# Altium footprint library PcbLib2.PcbLib: 11 footprints
Each footprint in its own frame and in the unit in brackets; x right, y up, seen from the top. Pads: shape width x height; smd on the part's side, far side on the other; paste and mask are expansions set on the pad; w line width, h text height; cw(c..) or ccw(c..) is an arc to the next point about the centre after c.
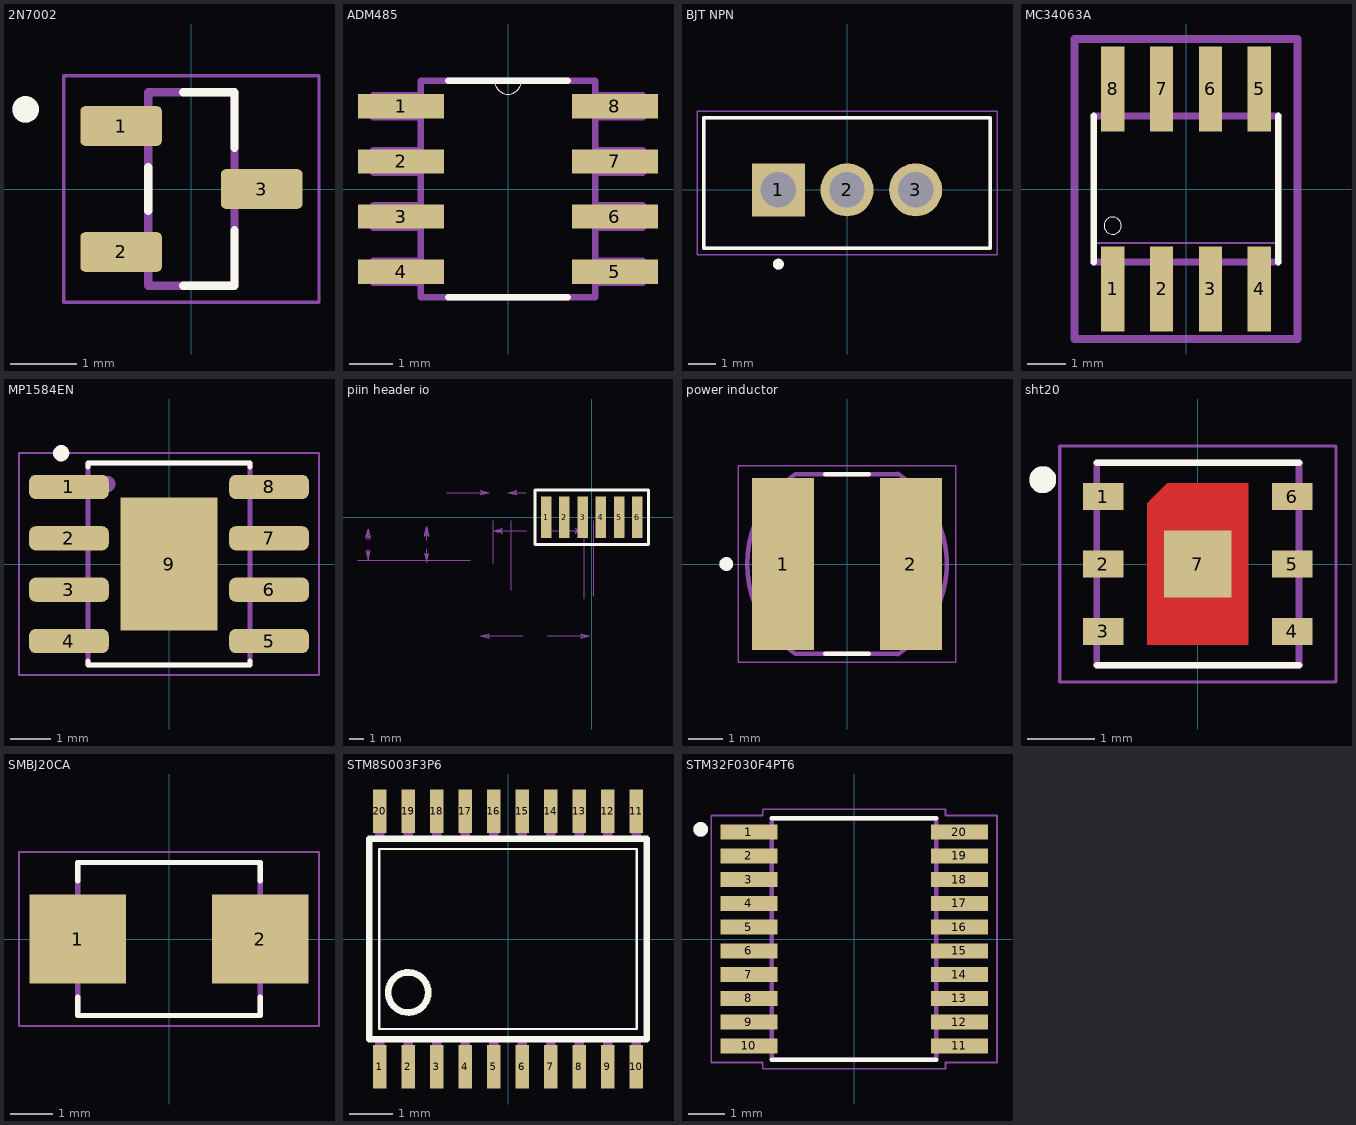
[diagram p0: the footprints below, top view; thin cyan lines are the x and y axes]

## 2N7002 [mm]
pads (3):
  rrect25% 1.23x0.6 smd: 1(-1.06,0.95) 2(-1.06,-0.95) 3(1.06,0)
Top Overlay:
  circle w0.2: c-2.5,1.2 r0.1
  lines w0.127: -0.65,-0.33 -0.65,0.33 ; -0.125,-1.46 0.65,-1.46 0.65,-0.62 ; -0.125,1.46 0.65,1.46 0.65,0.62
Mechanical 13:
  circle w0.2: c-2.5,1.2 r0.1
  lines w0.127: -0.65,-1.46 -0.65,1.46 0.65,1.46 0.65,-1.46 -0.65,-1.46
Mechanical 15:
  lines w0.05: -1.925,-1.71 1.925,-1.71 1.925,1.71 -1.925,1.71 -1.925,-1.71
3D body "2N7002--3DModel-STEP-1.STEP": height 1.02, standoff -0.09, extent -1.2,-1.376 1.2,1.524

## ADM485 [mil]
pads (8):
  rect 78x22 smd: 1(-97,75) 2(-97,25) 3(-97,-25) 4(-97,-75) 5(97,-75) 6(97,-25) 7(97,25) 8(97,75)
Top Overlay:
  lines w0: -12,98 ccw(c0,98) 12,98
  lines w6: -54,-98 54,-98 ; -54,98 -12,98 12,98 54,98
Mechanical 13:
  lines w0: -12,98 ccw(c0,98) 12,98
  lines w6: -122,-85 -122,-65 -79,-65 -79,-85 -122,-85 ; -122,-35 -122,-15 -79,-15 -79,-35 -122,-35 ; -122,15 -122,35 -79,35 -79,15 -122,15 ; -122,65 -122,85 -79,85 -79,65 -122,65 ; -79,-98 79,-98 79,98 12,98 -12,98 -79,98 -79,-98 ; 79,-85 79,-65 122,-65 122,-85 79,-85 ; 79,-35 79,-15 122,-15 122,-35 79,-35 ; 79,15 79,35 122,35 122,15 79,15 ; 79,65 79,85 122,85 122,65 79,65
3D body "ADM485ARZ-REEL.STEP": height 67.93, standoff -0.97, extent -113.11,-97.91 123.11,95

## BJT NPN [mm]
pads (3):
  rect 1.965x1.965 hole 1.31: 1(-2.54,0)
  round 1.965 hole 1.31: 2(0,0) 3(2.54,0)
Top Overlay:
  circle w0.2: c-2.54,-2.75 r0.1
  lines w0.127: -5.3,-2.16 5.3,-2.16 5.3,2.66 -5.3,2.66 -5.3,-2.16
Mechanical 13:
  circle w0.2: c-2.54,-2.75 r0.1
  lines w0.127: -5.3,-2.16 5.3,-2.16 5.3,2.66 -5.3,2.66 -5.3,-2.16
Mechanical 15:
  lines w0.05: -5.55,-2.41 5.55,-2.41 5.55,2.91 -5.55,2.91 -5.55,-2.41
3D body "step_temp.STEP": height 19.68, standoff -10.34, extent -4.985,-1.759 4.985,2.686

## MC34063A [mm]
pads (8):
  rect 0.6x2.2 smd: 1(-1.905,-2.6) 2(-0.635,-2.6) 3(0.635,-2.6) 4(1.905,-2.6) 5(1.905,2.6) 6(0.635,2.6) 7(-0.635,2.6) 8(-1.905,2.6)
Top Overlay:
  circle w0: c-1.905,-0.953 r0.225
  lines w0.178: -2.4,-1.9 -2.4,1.9 ; 2.4,-1.9 2.4,1.9
Mechanical 13:
  region: -1.66,2.003 -2.154,2.003 -2.154,3.1 -1.66,3.1
  region: -0.39,2.001 -0.88,2.001 -0.88,3.1 -0.39,3.1
  region: 0.88,2.002 0.39,2.002 0.39,3.1 0.88,3.1
  region: 2.15,2.001 1.661,2.001 1.661,3.1 2.15,3.1
  region: 2.15,-3.101 1.66,-3.101 1.66,-2 2.15,-2
  region: 0.88,-3.1 0.39,-3.1 0.39,-2 0.88,-2
  region: -0.39,-3.102 -0.881,-3.102 -0.881,-2 -0.39,-2
  region: -1.66,-3.103 -2.152,-3.103 -2.152,-2 -1.66,-2
  lines w0.051: -2.4,-1.4 2.4,-1.4
  lines w0.178: -2.4,-1.9 2.4,-1.9 ; -2.4,1.9 2.4,1.9
Mechanical 15:
  lines w0.2: -2.9,-3.9 -2.9,3.9 2.9,3.9 2.9,-3.9 -2.9,-3.9
3D body "MC34063A.STEP": height 1.68, standoff -0.07, extent -2.45,-3 2.45,3

## MP1584EN [mm]
pads (9):
  rrect54% 1.97x0.6 smd: 1(-2.475,1.905) 2(-2.475,0.635) 3(-2.475,-0.635) 4(-2.475,-1.905) 5(2.475,-1.905) 6(2.475,-0.635) 7(2.475,0.635) 8(2.475,1.905)
  rect 2.41x3.3 smd paste-3: 9(0,0)
Top Overlay:
  circle w0.2: c-2.667,2.74 r0.1
  lines w0.127: -2,-2.4 -2,-2.5 2,-2.5 2,-2.4 ; -2,2.4 -2,2.5 2,2.5 2,2.4
Top Paste:
  region: 0.935,0.135 0.135,0.135 0.135,1.375 0.935,1.375
  region: 0.935,-1.377 0.135,-1.377 0.135,-0.135 0.935,-0.135
  region: -0.135,-1.378 -0.937,-1.378 -0.937,-0.135 -0.135,-0.135
  region: -0.135,0.135 -0.937,0.135 -0.937,1.375 -0.135,1.375
Mechanical 13:
  circle w0.2: c-1.524,1.978 r0.1
  lines w0.127: -2,-2.5 2,-2.5 2,2.5 -2,2.5 -2,-2.5
Mechanical 15:
  lines w0.05: -3.71,-2.75 3.71,-2.75 3.71,2.75 -3.71,2.75 -3.71,-2.75
3D body "MP1584EN.STEP": height 1.67, standoff -0.03, extent -3.023,-2.489 2.972,2.413

## piin header io [mm]
pads (6):
  rect 0.74x2.87 smd: 1(-3.175,0) 2(-1.905,0) 3(-0.635,0) 4(0.635,0) 5(1.905,0) 6(3.175,0)
Top Overlay:
  lines w0.2: -3.937,-1.905 -3.937,1.905 3.937,1.905 3.937,-1.905 -3.937,-1.905
Top Solder:
  rectangle: -3.596,-1.435 -2.754,1.537
  rectangle: -2.326,-1.435 -1.484,1.537
  rectangle: 0.214,-1.435 1.056,1.537
  rectangle: 1.484,-1.435 2.326,1.537
  rectangle: 2.754,-1.435 3.596,1.537
  rectangle: -1.056,-1.435 -0.214,1.537
Mechanical 40:
  lines w0: -16.259,-2.985 -8.448,-2.985 ; -15.557,-2.223 -15.557,-2.985 ; -15.557,-1.587 -15.557,-0.825 ; -11.493,-2.223 -11.493,-3.137 ; -11.493,-1.587 -11.493,-0.673 ; -10.071,1.715 -7.112,1.715 ; -6.858,-3.201 -6.858,-0.241 -6.858,-2.63 ; -5.588,-5.094 -5.588,-0.241 ; -4.788,-8.255 -7.747,-8.255 ; -4.572,1.715 -5.842,1.715 ; -4.534,-0.942 -6.858,-0.942 ; -3.086,-8.255 -0.127,-8.255 ; -2.832,-0.942 -0.508,-0.942 ; -0.508,-5.665 -0.508,-0.241 ; 0.127,-5.511 0.127,-0.241 ; -15.716,-2.349 -15.557,-2.985 ; -15.716,-2.349 -15.557,-2.477 ; -15.716,-2.349 -15.637,-2.413 -15.557,-2.985 ; -15.557,-2.985 -15.399,-2.349 -15.557,-2.477 ; -15.557,-2.985 -15.478,-2.413 -15.557,-2.477 ; -15.557,-2.985 -15.557,-2.477 ; -15.557,-1.333 -15.716,-1.461 -15.557,-0.825 ; -15.557,-1.333 -15.399,-1.461 ; -15.557,-1.333 -15.637,-1.397 -15.557,-0.825 ; -15.557,-1.333 -15.557,-0.825 ; -15.557,-0.825 -15.399,-1.461 ; -15.557,-0.825 -15.478,-1.397 -15.399,-1.461 ; -11.652,-2.502 -11.493,-3.137 ; -11.652,-2.502 -11.493,-2.629 ; -11.652,-2.502 -11.573,-2.565 -11.493,-3.137 ; -11.493,-3.137 -11.335,-2.502 -11.493,-2.629 ; -11.493,-3.137 -11.414,-2.565 -11.493,-2.629 ; -11.493,-3.137 -11.493,-2.629 ; -11.493,-1.181 -11.652,-1.308 -11.493,-0.673 ; -11.493,-1.181 -11.335,-1.308 ; -11.493,-1.181 -11.573,-1.245 -11.493,-0.673 ; -11.493,-1.181 -11.493,-0.673 ; -11.493,-0.673 -11.335,-1.308 ; -11.493,-0.673 -11.414,-1.245 -11.335,-1.308 ; -7.747,-8.255 -7.112,-8.096 ; -7.747,-8.255 -7.112,-8.414 -7.239,-8.255 ; -7.747,-8.255 -7.175,-8.334 -7.239,-8.255 ; -7.747,-8.255 -7.239,-8.255 ; -7.747,-8.255 -7.175,-8.176 -7.112,-8.096 ; -7.747,1.556 -7.112,1.715 ; -7.747,1.556 -7.62,1.715 ; -7.747,1.556 -7.683,1.635 -7.112,1.715 ; -7.62,1.715 -7.747,1.873 -7.112,1.715 ; -7.62,1.715 -7.683,1.794 -7.112,1.715 ; -7.62,1.715 -7.112,1.715 ; -7.239,-8.255 -7.112,-8.096 ; -6.858,-0.942 -6.223,-0.783 ; -6.858,-0.942 -6.223,-1.101 -6.35,-0.942 ; -6.858,-0.942 -6.287,-1.021 -6.35,-0.942 ; -6.858,-0.942 -6.35,-0.942 ; -6.858,-0.942 -6.287,-0.863 -6.223,-0.783 ; -6.35,-0.942 -6.223,-0.783 ; -5.842,1.715 -5.207,1.873 ; -5.842,1.715 -5.207,1.556 -5.334,1.715 ; -5.842,1.715 -5.271,1.635 -5.334,1.715 ; -5.842,1.715 -5.334,1.715 ; -5.842,1.715 -5.271,1.794 -5.207,1.873 ; -5.334,1.715 -5.207,1.873 ; -1.143,-1.101 -0.508,-0.942 ; -1.143,-1.101 -1.016,-0.942 ; -1.143,-1.101 -1.079,-1.021 -0.508,-0.942 ; -1.016,-0.942 -1.143,-0.783 -0.508,-0.942 ; -1.016,-0.942 -1.079,-0.863 -0.508,-0.942 ; -1.016,-0.942 -0.508,-0.942 ; -0.762,-8.414 -0.127,-8.255 ; -0.762,-8.414 -0.635,-8.255 ; -0.762,-8.414 -0.699,-8.334 -0.127,-8.255 ; -0.635,-8.255 -0.762,-8.096 -0.127,-8.255 ; -0.635,-8.255 -0.699,-8.176 -0.127,-8.255 ; -0.635,-8.255 -0.127,-8.255
  text "2.159" at -16.218,-2.032 h0.39
  text "2.464" at -12.154,-2.032 h0.39
  text "1.270" at -11.582,1.587 h0.39
  text "7.620" at -4.597,-8.382 h0.39
  text "6.350" at -4.343,-1.069 h0.39

## power inductor [mm]
pads (2):
  rect 1.8x5 smd: 1(-1.85,0) 2(1.85,0)
Top Overlay:
  circle w0.2: c-3.5,0 r0.1
  lines w0.127: -0.63,-2.6 0.63,-2.6 ; -0.63,2.6 0.63,2.6
Mechanical 13:
  circle w0.2: c-3.5,0 r0.1
  lines w0.127: -1.523,-2.585 cw(c0.221,0) -1.523,2.585 ; -1.5,-2.6 1.5,-2.6 ; -1.5,2.6 1.5,2.6 ; 1.477,-2.615 ccw(c-0.221,0) 1.477,2.615
Mechanical 15:
  lines w0.05: -3.15,-2.85 3.15,-2.85 3.15,2.85 -3.15,2.85 -3.15,-2.85
3D body "step_temp.STEP": height 4.85, standoff 0, extent -2.897,-2.6 2.897,2.6

## sht20 [mm]
pads (7):
  rect 0.6x0.4 smd paste-1: 1(-1.4,1) 2(-1.4,0) 3(-1.4,-1) 4(1.4,-1) 5(1.4,0) 6(1.4,1)
  rect 1x1 smd paste-1 mask+0: 7(0,0)
Top Layer:
  region: 0.75,-1.2 -0.75,-1.2 -0.75,0.9 -0.45,1.2 0.75,1.2
Top Overlay:
  circle w0.2: c-2.3,1.25 r0.1
  lines w0.1: -1.5,-1.5 1.5,-1.5 ; -1.5,1.5 1.5,1.5
Top Paste:
  region: 0.7,-1.15 -0.7,-1.15 -0.7,0.875 -0.425,1.15 0.7,1.15
  region: 1.7,-1.2 1.2,-1.2 1.2,-0.8 1.7,-0.8
  region: 1.7,-0.2 1.2,-0.2 1.2,0.2 1.7,0.2
  region: 1.7,0.8 1.2,0.8 1.2,1.2 1.7,1.2
  region: -1.2,-1.2 -1.7,-1.2 -1.7,-0.8 -1.2,-0.8
  region: -1.2,-0.2 -1.7,-0.2 -1.7,0.2 -1.2,0.2
  region: -1.2,0.8 -1.7,0.8 -1.7,1.2 -1.2,1.2
Top Solder:
  region: 0.755,1.3 0.76,1.299 0.766,1.299 0.771,1.298 0.776,1.297 0.781,1.295 0.786,1.293 0.791,1.291 0.795,1.289 0.8,1.287 0.804,1.284 0.809,1.281 0.813,1.278 0.817,1.274 0.821,1.271 0.824,1.267 0.828,1.263 0.831,1.259 0.834,1.254 0.837,1.25 0.839,1.245 0.841,1.241 0.843,1.236 0.845,1.231 0.847,1.226 0.848,1.221 0.849,1.216 0.849,1.21 0.85,1.205 0.85,1.2 0.85,-1.2 0.85,-1.205 0.849,-1.21 0.849,-1.216 0.848,-1.221 0.847,-1.226 0.845,-1.231 0.843,-1.236 0.841,-1.241 0.839,-1.245 0.837,-1.25 0.834,-1.254 0.831,-1.259 0.828,-1.263 0.824,-1.267 0.821,-1.271 0.817,-1.274 0.813,-1.278 0.809,-1.281 0.804,-1.284 0.8,-1.287 0.795,-1.289 0.791,-1.291 0.786,-1.293 0.781,-1.295 0.776,-1.297 0.771,-1.298 0.766,-1.299 0.76,-1.299 0.755,-1.3 0.75,-1.3 -0.75,-1.3 -0.755,-1.3 -0.76,-1.299 -0.766,-1.299 -0.771,-1.298 -0.776,-1.297 -0.781,-1.295 -0.786,-1.293 -0.791,-1.291 -0.795,-1.289 -0.8,-1.287 -0.804,-1.284 -0.809,-1.281 -0.813,-1.278 -0.817,-1.274 -0.821,-1.271 -0.824,-1.267 -0.828,-1.263 -0.831,-1.259 -0.834,-1.254 -0.837,-1.25 -0.839,-1.245 -0.841,-1.241 -0.843,-1.236 -0.845,-1.231 -0.847,-1.226 -0.848,-1.221 -0.849,-1.216 -0.849,-1.21 -0.85,-1.205 -0.85,-1.2 -0.85,0.9 -0.85,0.971 -0.521,1.3 0.75,1.3
Mechanical 13:
  circle w0.2: c-2.3,1.25 r0.1
  lines w0.1: -1.5,-1.5 1.5,-1.5 1.5,1.5 -1.5,1.5 -1.5,-1.5
Mechanical 15:
  lines w0.05: -2.05,-1.75 -2.05,1.75 2.05,1.75 2.05,-1.75 -2.05,-1.75
3D body "SHT20--3DModel-STEP-1.STEP": height 1.06, standoff 0.01, extent -1.524,-1.524 1.476,1.476

## SMBJ20CA [mm]
height 2.65
pads (2):
  rect 2.28x2.12 smd: 1(-2.165,0) 2(2.165,0)
Top Overlay:
  lines w0.127: -2.163,-1.38 -2.163,-1.813 2.163,-1.813 2.163,-1.38 ; -2.163,1.38 -2.163,1.813 2.163,1.813 2.163,1.38
Mechanical 13:
  lines w0.127: -2.163,-1.813 -2.163,1.813 2.163,1.813 2.163,-1.813 -2.163,-1.813
Mechanical 15:
  lines w0.05: -3.555,-2.063 -3.555,2.063 3.555,2.063 3.555,-2.063 -3.555,-2.063
3D body "step_temp.STEP": height 2.65, standoff 0, extent -2.675,-1.813 2.675,1.813

## STM8S003F3P6 [mil]
pads (20):
  rect 12x39 smd: 1(-115.16,-114.87) 2(-89.57,-114.87) 3(-63.98,-114.87) 4(-38.39,-114.87) 5(-12.8,-114.87) 6(12.8,-114.87) 7(38.39,-114.87) 8(63.98,-114.87) 9(89.57,-114.87) 10(115.16,-114.87) 11(115.16,114.87) 12(89.57,114.87) 13(63.98,114.87) 14(38.39,114.87) 15(12.8,114.87) 16(-12.8,114.87) 17(-38.39,114.87) 18(-63.98,114.87) 19(-89.57,114.87) 20(-115.16,114.87)
Top Overlay:
  circle w6: c-89.59,-48 r18
  lines w2: -115.59,-80.87 -115.59,80.87 115.59,80.87 115.59,-80.87 -115.59,-80.87
  lines w6: -124.59,-89.87 -124.59,89.87 124.59,89.87 124.59,-89.87 -124.59,-89.87
Mechanical 13:
  region: -111.16,89.96 -119.28,89.96 -119.28,122.87 -111.16,122.87
  region: -85.57,89.88 -93.57,89.88 -93.57,122.87 -85.57,122.87
  region: -59.98,89.88 -67.98,89.88 -67.98,122.87 -59.98,122.87
  region: -34.39,89.89 -42.39,89.89 -42.39,122.87 -34.39,122.87
  region: -8.8,89.93 -16.81,89.93 -16.81,122.87 -8.8,122.87
  region: 16.8,89.95 8.8,89.95 8.8,122.87 16.8,122.87
  region: 42.39,89.92 34.4,89.92 34.4,122.87 42.39,122.87
  region: 67.98,89.92 60.01,89.92 60.01,122.87 67.98,122.87
  region: 93.57,89.91 85.6,89.91 85.6,122.87 93.57,122.87
  region: 119.16,89.95 111.25,89.95 111.25,122.87 119.16,122.87
  region: 119.16,-122.88 111.17,-122.88 111.17,-89.87 119.16,-89.87
  region: 93.57,-123.11 85.73,-123.11 85.73,-89.87 93.57,-89.87
  region: 67.98,-123.06 60.07,-123.06 60.07,-89.87 67.98,-89.87
  region: 42.39,-122.91 34.4,-122.91 34.4,-89.87 42.39,-89.87
  region: 16.8,-122.9 8.8,-122.9 8.8,-89.87 16.8,-89.87
  region: -8.8,-123.1 -16.83,-123.1 -16.83,-89.87 -8.8,-89.87
  region: -34.39,-123.08 -42.46,-123.08 -42.46,-89.87 -34.39,-89.87
  region: -59.98,-122.88 -67.98,-122.88 -67.98,-89.87 -59.98,-89.87
  region: -85.57,-123.12 -93.75,-123.12 -93.75,-89.87 -85.57,-89.87
  region: -111.16,-123.02 -119.3,-123.02 -119.3,-89.87 -111.16,-89.87
3D body "stm8s003f3p6.stp": height 43.82, standoff 0.5, extent -127.95,-126.97 127.95,125

## STM32F030F4PT6 [mm]
pads (20):
  rect 1.56x0.41 smd: 1(-2.88,2.925) 2(-2.88,2.275) 3(-2.88,1.625) 4(-2.88,0.975) 5(-2.88,0.325) 6(-2.88,-0.325) 7(-2.88,-0.975) 8(-2.88,-1.625) 9(-2.88,-2.275) 10(-2.88,-2.925) 11(2.88,-2.925) 12(2.88,-2.275) 13(2.88,-1.625) 14(2.88,-0.975) 15(2.88,-0.325) 16(2.88,0.325) 17(2.88,0.975) 18(2.88,1.625) 19(2.88,2.275) 20(2.88,2.925)
Top Overlay:
  circle w0.2: c-4.2,3 r0.1
  lines w0.127: -2.25,-3.3 2.25,-3.3 ; -2.25,3.3 2.25,3.3
Mechanical 13:
  circle w0.2: c-4.2,3 r0.1
  lines w0.127: -2.25,-3.3 -2.25,3.3 2.25,3.3 2.25,-3.3 -2.25,-3.3
Mechanical 15:
  lines w0.05: -3.91,-3.38 -3.91,3.38 -2.5,3.38 -2.5,3.55 2.5,3.55 2.5,3.38 3.91,3.38 3.91,-3.38 2.5,-3.38 2.5,-3.55 -2.5,-3.55 -2.5,-3.38 -3.91,-3.38
3D body "STM32F030F4P6--3DModel-STEP-56544.STEP": height 1.22, standoff 0.02, extent -3.2,-3.25 3.2,3.25